# Altium integrated library Bulgin IEC Mains.IntLib: 6 symbols
Pins are listed as number, name and electrical type; pins without a type are passive.

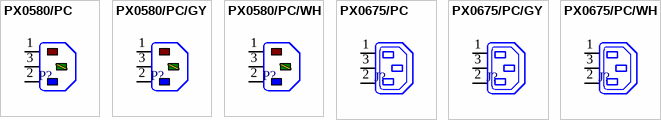
[diagram p0: symbols PX0580/PC to PX0675/PC/WH]

## PX0580/PC
designator P?
IEC Mains Power Inlet, EN60 320-1 C14 Class I Cold Condition, PC Flange Rear Mount, Chassis Plug, Black; PackageDocument: 2003; MaximumRating: 10A, 250V a.c. (UL & CSA 15A, 250V a.c.); Note: Mounting fixtures not drawn on schematic symbol.; PCB_Layout: Complies with manufacturer's recommendation.; DrillSize: Corresponds to nominal value.; Note: IEC Colour Scheme employed for L, N and E.; Published: 15-Jul-2004; DatasheetDocument: 2003; PackageReference: PX0580/PC; Publisher: Altium Limited; Terminations: P.C. Spills; ComponentLink1Description: Manufacturer Link; ComponentLink1URL: http://www.bulgin.co.uk/; ComponentLink2Description: Datasheet; ComponentLink2URL: http://www.bulgin.co.uk/PDFs/CatNo80/IEC2003_Inlet-Outlets.pdf
footprint PX0580/PC (Mains Power Inlet, IEC60 320-1 C14, PC Flange Rear Mount)
pins: 1 L (power) "Live (Active)", 2 N (power) "Neutral", 3 E (power) "Earth (Ground)"

## PX0580/PC/GY
designator P?
IEC Mains Power Inlet, EN60 320-1 C14 Class I Cold Condition, PC Flange Rear Mount, Chassis Plug, Grey; PackageDocument: 2003; MaximumRating: 10A, 250V a.c. (UL & CSA 15A, 250V a.c.); Note: Mounting fixtures not drawn on schematic symbol.; PCB_Layout: Complies with manufacturer's recommendation.; DrillSize: Corresponds to nominal value.; Note: IEC Colour Scheme employed for L, N and E.; Published: 15-Jul-2004; DatasheetDocument: 2003; PackageReference: PX0580/PC; Publisher: Altium Limited; Terminations: P.C. Spills; ComponentLink1Description: Manufacturer Link; ComponentLink1URL: http://www.bulgin.co.uk/; ComponentLink2Description: Datasheet; ComponentLink2URL: http://www.bulgin.co.uk/PDFs/CatNo80/IEC2003_Inlet-Outlets.pdf
footprint PX0580/PC (Mains Power Inlet, IEC60 320-1 C14, PC Flange Rear Mount)
pins: 1 L (power) "Live (Active)", 2 N (power) "Neutral", 3 E (power) "Earth (Ground)"

## PX0580/PC/WH
designator P?
IEC Mains Power Inlet, EN60 320-1 C14 Class I Cold Condition, PC Flange Rear Mount, Chassis Plug, White; PackageDocument: 2003; MaximumRating: 10A, 250V a.c. (UL & CSA 15A, 250V a.c.); Note: Mounting fixtures not drawn on schematic symbol.; PCB_Layout: Complies with manufacturer's recommendation.; DrillSize: Corresponds to nominal value.; Note: IEC Colour Scheme employed for L, N and E.; Published: 15-Jul-2004; DatasheetDocument: 2003; PackageReference: PX0580/PC; Publisher: Altium Limited; Terminations: P.C. Spills; ComponentLink1Description: Manufacturer Link; ComponentLink1URL: http://www.bulgin.co.uk/; ComponentLink2Description: Datasheet; ComponentLink2URL: http://www.bulgin.co.uk/PDFs/CatNo80/IEC2003_Inlet-Outlets.pdf
footprint PX0580/PC (Mains Power Inlet, IEC60 320-1 C14, PC Flange Rear Mount)
pins: 1 L (power) "Live (Active)", 2 N (power) "Neutral", 3 E (power) "Earth (Ground)"

## PX0675/PC
designator J?
IEC Mains Power Outlet, EN60 320-2-2 F Class I, PC Flange Rear Mount, Chassis Socket, Black; PackageDocument: 2003; MaximumRating: 10A, 250V a.c. (UL & CSA 15A, 250V a.c.); Note: Mounting fixtures not drawn on schematic symbol.; PCB_Layout: Complies with manufacturer's recommendation.; DrillSize: Corresponds to nominal value.; Published: 15-Jul-2004; DatasheetDocument: 2003; PackageReference: PX0675/PC; Publisher: Altium Limited; Terminations: P.C. Spills; ComponentLink1Description: Manufacturer Link; ComponentLink1URL: http://www.bulgin.co.uk/; ComponentLink2Description: Datasheet; ComponentLink2URL: http://www.bulgin.co.uk/PDFs/CatNo80/IEC2003_Inlet-Outlets.pdf
footprint PX0675/PC (Mains Power Outlet, IEC60 320-2-2 F, PC Flange Rear Mount)
pins: 1 L (power) "Live (Active)", 2 N (power) "Neutral", 3 E (power) "Earth (Ground)"

## PX0675/PC/GY
designator J?
IEC Mains Power Outlet, EN60 320-2-2 F Class I, PC Flange Rear Mount, Chassis Socket, Grey; PackageDocument: 2003; MaximumRating: 10A, 250V a.c. (UL & CSA 15A, 250V a.c.); Note: Mounting fixtures not drawn on schematic symbol.; PCB_Layout: Complies with manufacturer's recommendation.; DrillSize: Corresponds to nominal value.; Published: 15-Jul-2004; DatasheetDocument: 2003; PackageReference: PX0675/PC; Publisher: Altium Limited; Terminations: P.C. Spills; ComponentLink1Description: Manufacturer Link; ComponentLink1URL: http://www.bulgin.co.uk/; ComponentLink2Description: Datasheet; ComponentLink2URL: http://www.bulgin.co.uk/PDFs/CatNo80/IEC2003_Inlet-Outlets.pdf
footprint PX0675/PC (Mains Power Outlet, IEC60 320-2-2 F, PC Flange Rear Mount)
pins: 1 L (power) "Live (Active)", 2 N (power) "Neutral", 3 E (power) "Earth (Ground)"

## PX0675/PC/WH
designator J?
IEC Mains Power Outlet, EN60 320-2-2 F Class I, PC Flange Rear Mount, Chassis Socket, White; PackageDocument: 2003; MaximumRating: 10A, 250V a.c. (UL & CSA 15A, 250V a.c.); Note: Mounting fixtures not drawn on schematic symbol.; PCB_Layout: Complies with manufacturer's recommendation.; DrillSize: Corresponds to nominal value.; Published: 15-Jul-2004; DatasheetDocument: 2003; PackageReference: PX0675/PC; Publisher: Altium Limited; Terminations: P.C. Spills; ComponentLink1Description: Manufacturer Link; ComponentLink1URL: http://www.bulgin.co.uk/; ComponentLink2Description: Datasheet; ComponentLink2URL: http://www.bulgin.co.uk/PDFs/CatNo80/IEC2003_Inlet-Outlets.pdf
footprint PX0675/PC (Mains Power Outlet, IEC60 320-2-2 F, PC Flange Rear Mount)
pins: 1 L (power) "Live (Active)", 2 N (power) "Neutral", 3 E (power) "Earth (Ground)"